# Altium footprint library F.PcbLib: 19 footprints (part 1 of 2)
Each footprint in its own frame and in the unit in brackets; x right, y up, seen from the top. Pads: shape width x height; smd on the part's side, far side on the other; paste and mask are expansions set on the pad; w line width, h text height; cw(c..) or ccw(c..) is an arc to the next point about the centre after c.
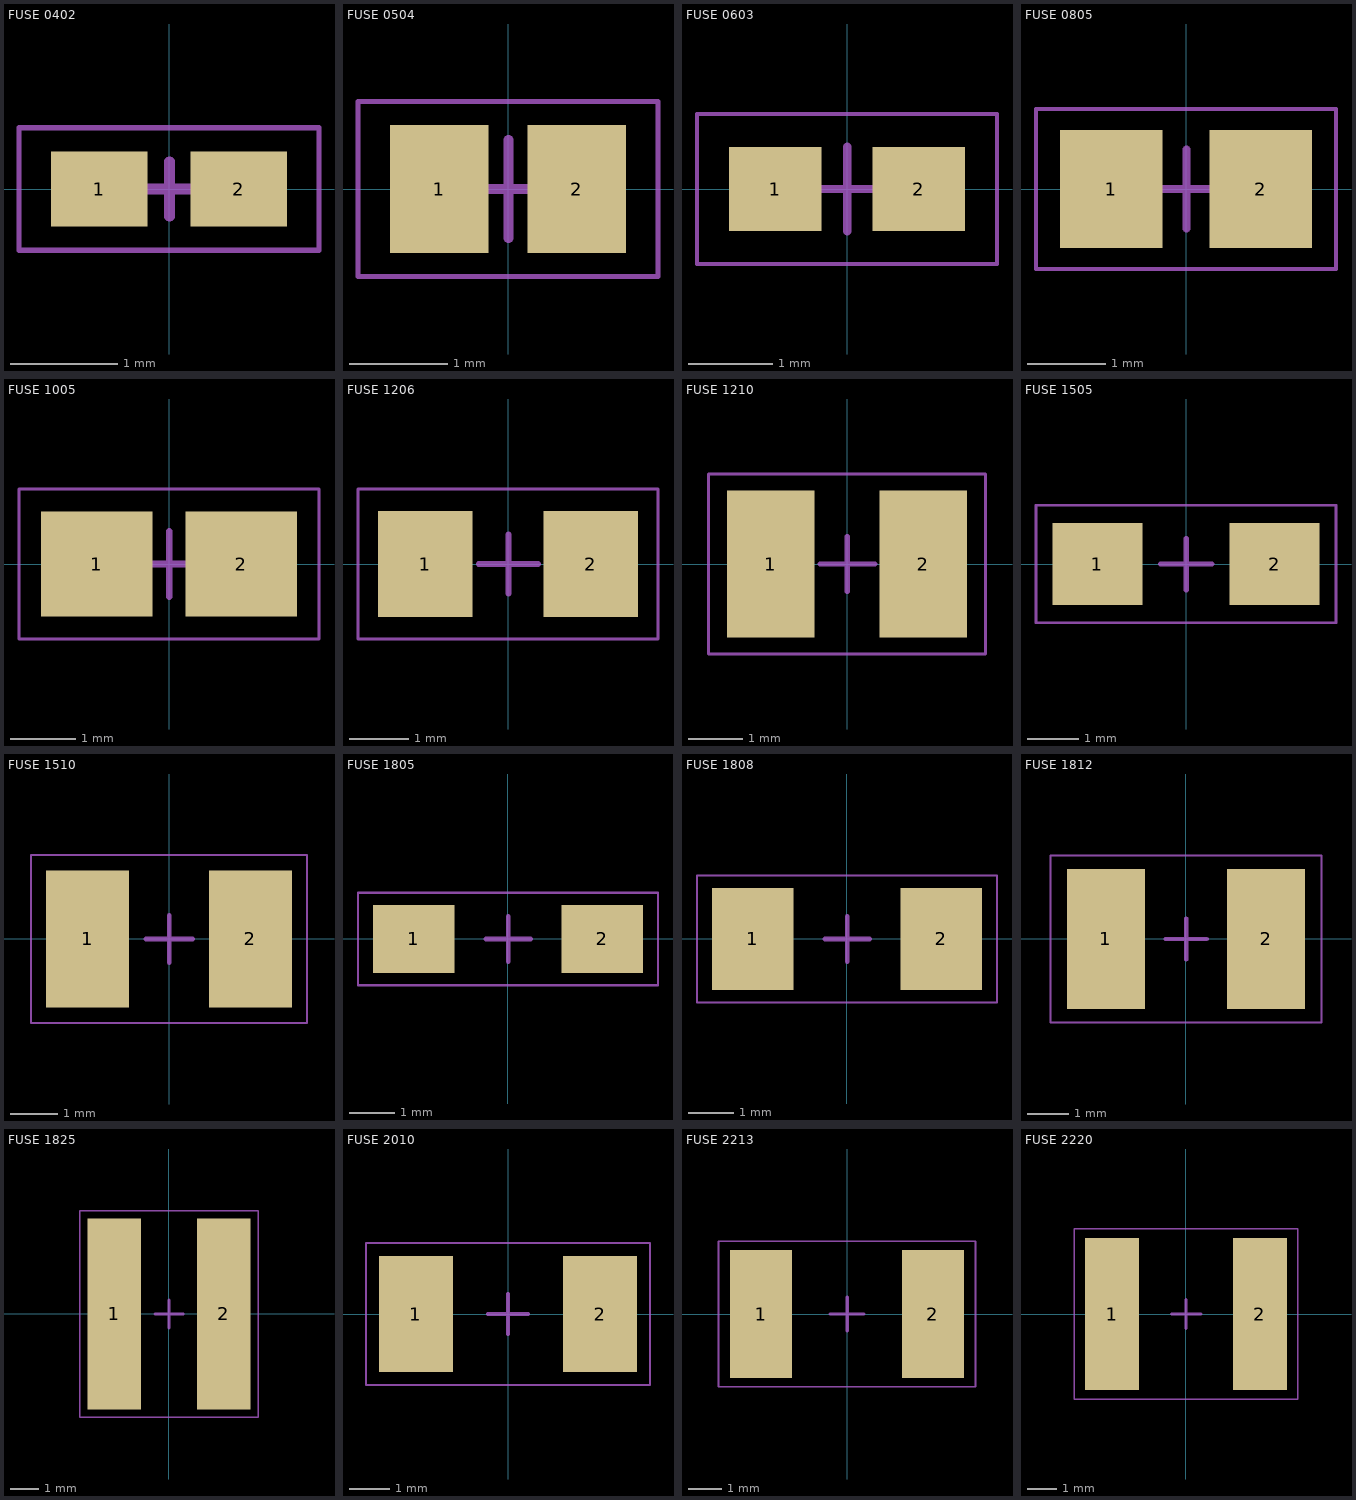
[diagram p0: the footprints below, top view; thin cyan lines are the x and y axes]

## FUSE 0402 [mm] "Body 1.0 x 0.5 mm (LxW typ)"
height 0.6
pads (2):
  rect 0.9x0.7 smd: 1(-0.65,0) 2(0.65,0)
Mechanical 3:
  text ".Designator" at -1.397,1.016 h0.5
Mechanical 15:
  lines w0.05: -1.397,-0.572 -1.397,0.572 1.397,0.572 1.397,-0.572 -1.397,-0.572
  lines w0.1: -0.254,0 0.254,0 ; 0.005,-0.254 0.005,0.254
3D body: height 1, standoff 0, extent -0.953,-0.318 -0.571,0.318
3D body: height 1, standoff 0, extent -0.572,-0.318 0.65,0.317
3D body: height 1, standoff 0, extent 0.589,-0.318 0.953,0.318

## FUSE 0504 [mm] "Body 1.2 x 1.0 mm (LxW typ)"
height 1.02
pads (2):
  rect 1x1.3 smd: 1(-0.7,0) 2(0.7,0)
Mechanical 3:
  text ".Designator" at -1.524,1.27 h0.5
Mechanical 15:
  lines w0.05: -1.524,-0.889 1.524,-0.889 1.524,0.889 -1.524,0.889 -1.524,-0.889
  lines w0.1: -0.495,0 0.505,0 ; 0.005,-0.5 0.005,0.5
3D body: height 1, standoff 0, extent 0.612,-0.508 1.016,0.508
3D body: height 1, standoff 0, extent -0.635,-0.508 0.65,0.508
3D body: height 1, standoff 0, extent -1.016,-0.508 -0.635,0.508

## FUSE 0603 [mm] "Body 1.6 x 0.8 mm (LxW typ)"
height 0.85
pads (2):
  rect 1.1x1 smd: 1(-0.85,0) 2(0.85,0)
Mechanical 3:
  text ".Designator" at -1.778,1.27 h0.5
Mechanical 15:
  lines w0.05: -1.778,-0.889 -1.778,0.889 1.778,0.889 1.778,-0.889 -1.778,-0.889
  lines w0.1: -0.495,0 0.505,0 ; 0.005,-0.5 0.005,0.5
3D body: height 1, standoff 0, extent 0.635,-0.508 1.143,0.508
3D body: height 1, standoff 0, extent -1.143,-0.508 -0.635,0.508
3D body: height 1, standoff 0, extent -0.643,-0.508 0.643,0.508

## FUSE 0805 [mm] "Body 2.0 x 1.2 mm (LxW typ)"
height 1.1
pads (2):
  rect 1.3x1.5 smd: 1(-0.95,0) 2(0.95,0)
Mechanical 3:
  text ".Designator" at -1.905,1.397 h0.5
Mechanical 15:
  lines w0.05: -1.905,-1.016 1.905,-1.016 1.905,1.016 -1.905,1.016 -1.905,-1.016
  lines w0.1: -0.495,0 0.505,0 ; 0.005,-0.5 0.005,0.5
3D body "polyfuse.STEP": height 0.66, standoff 0, extent -1.075,-0.675 1.075,0.675

## FUSE 1005 [mm] "Body 2.54 x 1.27 mm (LxW typ)"
height 1.66
pads (2):
  rect 1.7x1.6 smd: 1(-1.1,0) 2(1.1,0)
Mechanical 3:
  text ".Designator" at -2.286,1.524 h0.5
Mechanical 15:
  lines w0.05: -2.286,-1.143 -2.286,1.143 2.286,1.143 2.286,-1.143 -2.286,-1.143
  lines w0.1: -0.495,0 0.505,0 ; 0.005,-0.5 0.005,0.5
3D body: height 1, standoff 0, extent -1.651,-0.635 -1.1,0.635
3D body: height 1, standoff 0, extent -1.1,-0.635 1.016,0.635
3D body: height 1, standoff 0, extent 1.016,-0.635 1.651,0.635

## FUSE 1206 [mm] "Body 3.2 x 1.6 mm (LxW typ)"
height 1.35
pads (2):
  rect 1.6x1.8 smd: 1(-1.4,0) 2(1.4,0)
Mechanical 3:
  text ".Designator" at -2.54,1.651 h0.5
Mechanical 15:
  lines w0.05: -2.54,-1.27 -2.54,1.27 2.54,1.27 2.54,-1.27 -2.54,-1.27
  lines w0.1: -0.495,0 0.505,0 ; 0.005,-0.5 0.005,0.5
3D body: height 1, standoff 0, extent -1.905,-0.762 -1.27,0.762
3D body: height 1, standoff 0, extent -1.27,-0.762 1.27,0.762
3D body: height 1, standoff 0, extent 1.27,-0.762 1.905,0.762

## FUSE 1210 [mm] "Body 3.2 x 2.5 mm (LxW typ)"
height 1.35
pads (2):
  rect 1.6x2.7 smd: 1(-1.4,0) 2(1.4,0)
Mechanical 3:
  text ".Designator" at -2.54,2.032 h0.5
Mechanical 15:
  lines w0.05: -2.54,-1.651 -2.54,1.651 2.54,1.651 2.54,-1.651 -2.54,-1.651
  lines w0.1: -0.495,0 0.505,0 ; 0.005,-0.5 0.005,0.5
3D body: height 1, standoff 0, extent -1.905,-1.143 -1.27,1.143
3D body: height 1, standoff 0, extent -1.27,-1.143 1.27,1.143
3D body: height 1, standoff 0, extent 1.27,-1.143 1.905,1.143

## FUSE 1505 [mm] "Body 3.81 x 1.27 mm (LxW typ)"
height 1.66
pads (2):
  rect 1.75x1.6 smd: 1(-1.725,0) 2(1.725,0)
Mechanical 3:
  text ".Designator" at -2.921,1.524 h0.5
Mechanical 15:
  lines w0.05: -2.921,-1.143 2.921,-1.143 2.921,1.143 -2.921,1.143 -2.921,-1.143
  lines w0.1: -0.495,0 0.505,0 ; 0.005,-0.5 0.005,0.5
3D body: height 1, standoff 0, extent 1.587,-0.762 2.222,0.762
3D body: height 1, standoff 0, extent -1.651,-0.762 1.651,0.762
3D body: height 1, standoff 0, extent -2.35,-0.762 -1.651,0.762

## FUSE 1510 [mm] "Body 3.81 x 2.54 mm (LxW typ)"
height 1.66
pads (2):
  rect 1.75x2.9 smd: 1(-1.725,0) 2(1.725,0)
Mechanical 3:
  text ".Designator" at -2.921,2.159 h0.5
Mechanical 15:
  lines w0.05: -2.921,-1.778 2.921,-1.778 2.921,1.778 -2.921,1.778 -2.921,-1.778
  lines w0.1: -0.495,0 0.505,0 ; 0.005,-0.5 0.005,0.5
3D body: height 1, standoff 0, extent 1.27,-1.27 2.286,1.27
3D body: height 1, standoff 0, extent -1.27,-1.27 1.27,1.27
3D body: height 1, standoff 0, extent -2.286,-1.27 -1.27,1.27

## FUSE 1805 [mm] "Body 4.5 x 1.3 mm (LxW typ)"
height 1.4
pads (2):
  rect 1.8x1.5 smd: 1(-2.075,0) 2(2.075,0)
Mechanical 3:
  text ".Designator" at -3.175,1.397 h0.5
Mechanical 15:
  lines w0.05: -1.587,1.016 -3.302,1.016 -3.302,-1.016 3.302,-1.016 3.302,1.016 1.587,1.016 -1.587,1.016 ; -1.587,1.016 -1.587,1.016
  lines w0.1: -0.495,0 0.505,0 ; 0.005,-0.5 0.005,0.5
3D body: height 1, standoff 0, extent 1.27,-0.635 2.54,0.635
3D body: height 1, standoff 0, extent -1.27,-0.635 1.27,0.635
3D body: height 1, standoff 0, extent -2.476,-0.635 -1.27,0.635

## FUSE 1808 [mm] "Body 4.5 x 2.0 mm (LxW typ)"
height 2.03
pads (2):
  rect 1.8x2.25 smd: 1(-2.075,0) 2(2.075,0)
Mechanical 3:
  text ".Designator" at -3.302,1.778 h0.5
Mechanical 15:
  lines w0.05: -3.302,-1.397 -3.302,1.397 3.302,1.397 3.302,-1.397 -3.302,-1.397
  lines w0.1: -0.495,0 0.505,0 ; 0.005,-0.5 0.005,0.5
3D body: height 1, standoff 0, extent -2.476,-1.016 -1.27,1.016
3D body: height 1, standoff 0, extent -1.27,-1.016 1.27,1.016
3D body: height 1, standoff 0, extent 1.27,-1.016 2.54,1.016

## FUSE 1812 [mm] "Body 4.5 x 3.2 mm (LxW typ)"
height 1.35
pads (2):
  rect 1.9x3.4 smd: 1(-1.95,0) 2(1.95,0)
Mechanical 3:
  text ".Designator" at -3.302,2.413 h0.5
Mechanical 15:
  lines w0.05: -3.302,-2.032 -3.302,2.032 3.302,2.032 3.302,-2.032 -3.302,-2.032
  lines w0.1: -0.495,0 0.505,0 ; 0.005,-0.5 0.005,0.5
3D body: height 1, standoff 0, extent -2.476,-1.524 -1.27,1.524
3D body: height 1, standoff 0, extent -1.27,-1.524 1.27,1.524
3D body: height 1, standoff 0, extent 1.27,-1.524 2.54,1.524

## FUSE 1825 [mm] "Body 4.5 x 6.4 mm (LxW typ)"
height 1.1
pads (2):
  rect 1.9x6.8 smd: 1(-1.95,0) 2(1.95,0)
Mechanical 3:
  text ".Designator" at -3.175,4.064 h0.5
Mechanical 15:
  lines w0.05: -3.175,-3.683 3.175,-3.683 3.175,3.683 -3.175,3.683 -3.175,-3.683
  lines w0.1: -0.495,0 0.505,0 ; 0.005,-0.5 0.005,0.5
3D body: height 1, standoff 0, extent 1.27,-3.175 2.54,3.048
3D body: height 1, standoff 0, extent -1.27,-3.175 1.27,3.048
3D body: height 1, standoff 0, extent -2.477,-3.175 -1.27,3.048

## FUSE 2010 [mm] "Body 5.08 x 2.54 mm (LxW typ)"
height 1.66
pads (2):
  rect 1.85x2.9 smd: 1(-2.3,0) 2(2.3,0)
Mechanical 3:
  text ".Designator" at -3.556,2.159 h0.5
Mechanical 15:
  lines w0.05: -3.556,-1.778 3.556,-1.778 3.556,1.778 -3.556,1.778 -3.556,-1.778
  lines w0.1: -0.495,0 0.505,0 ; 0.005,-0.5 0.005,0.5
3D body: height 1, standoff 0, extent 1.27,-1.397 2.54,1.397
3D body: height 1, standoff 0, extent -1.27,-1.397 1.27,1.397
3D body: height 1, standoff 0, extent -2.476,-1.397 -1.27,1.397

## FUSE 2213 [mm] "Body 5.59 x 3.43 mm (LxW typ)"
height 2.16
pads (2):
  rect 1.85x3.8 smd: 1(-2.55,0) 2(2.55,0)
Mechanical 3:
  text ".Designator" at -3.81,2.54 h0.5
Mechanical 15:
  lines w0.05: -3.81,-2.159 3.81,-2.159 3.81,2.159 -3.81,2.159 -3.81,-2.159
  lines w0.1: -0.495,0 0.505,0 ; 0.005,-0.5 0.005,0.5
3D body: height 1, standoff 0, extent 1.651,-1.778 2.921,1.778
3D body: height 1, standoff 0, extent -1.651,-1.778 1.651,1.778
3D body: height 1, standoff 0, extent -2.889,-1.778 -1.651,1.778

## FUSE 2220 [mm] "Body 5.7 x 5.0 mm (LxW typ)"
height 1.8
pads (2):
  rect 1.85x5.2 smd: 1(-2.525,0) 2(2.525,0)
Mechanical 3:
  text ".Designator" at -3.81,3.302 h0.5
Mechanical 15:
  lines w0.05: -3.81,-2.921 3.81,-2.921 3.81,2.921 -3.81,2.921 -3.81,-2.921
  lines w0.1: -0.495,0 0.505,0 ; 0.005,-0.5 0.005,0.5
3D body: height 1, standoff 0, extent 1.905,-2.413 3.175,2.413
3D body: height 1, standoff 0, extent -1.905,-2.413 1.905,2.413
3D body: height 1, standoff 0, extent -3.175,-2.413 -1.905,2.413